# Altium schematic symbol library TPD6E05U06RVZR.SchLib: 1 symbol
Pins are listed as number, name and electrical type; pins without a type are passive.

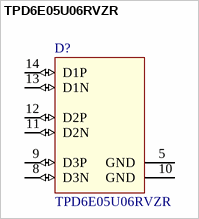
[diagram p0: symbol TPD6E05U06RVZR]

## TPD6E05U06RVZR
designator D?
Value: *
footprint *SON50P135X350X55-14N
pins: 5 GND (power), 8 D3N (io), 9 D3P (io), 10 GND (power), 11 D2N (io), 12 D2P (io), 13 D1N (io), 14 D1P (io)